# Altium schematic symbol library kmilo17pet-NSC_Interface.SchLib: 1433 symbols (part 30 of 51)
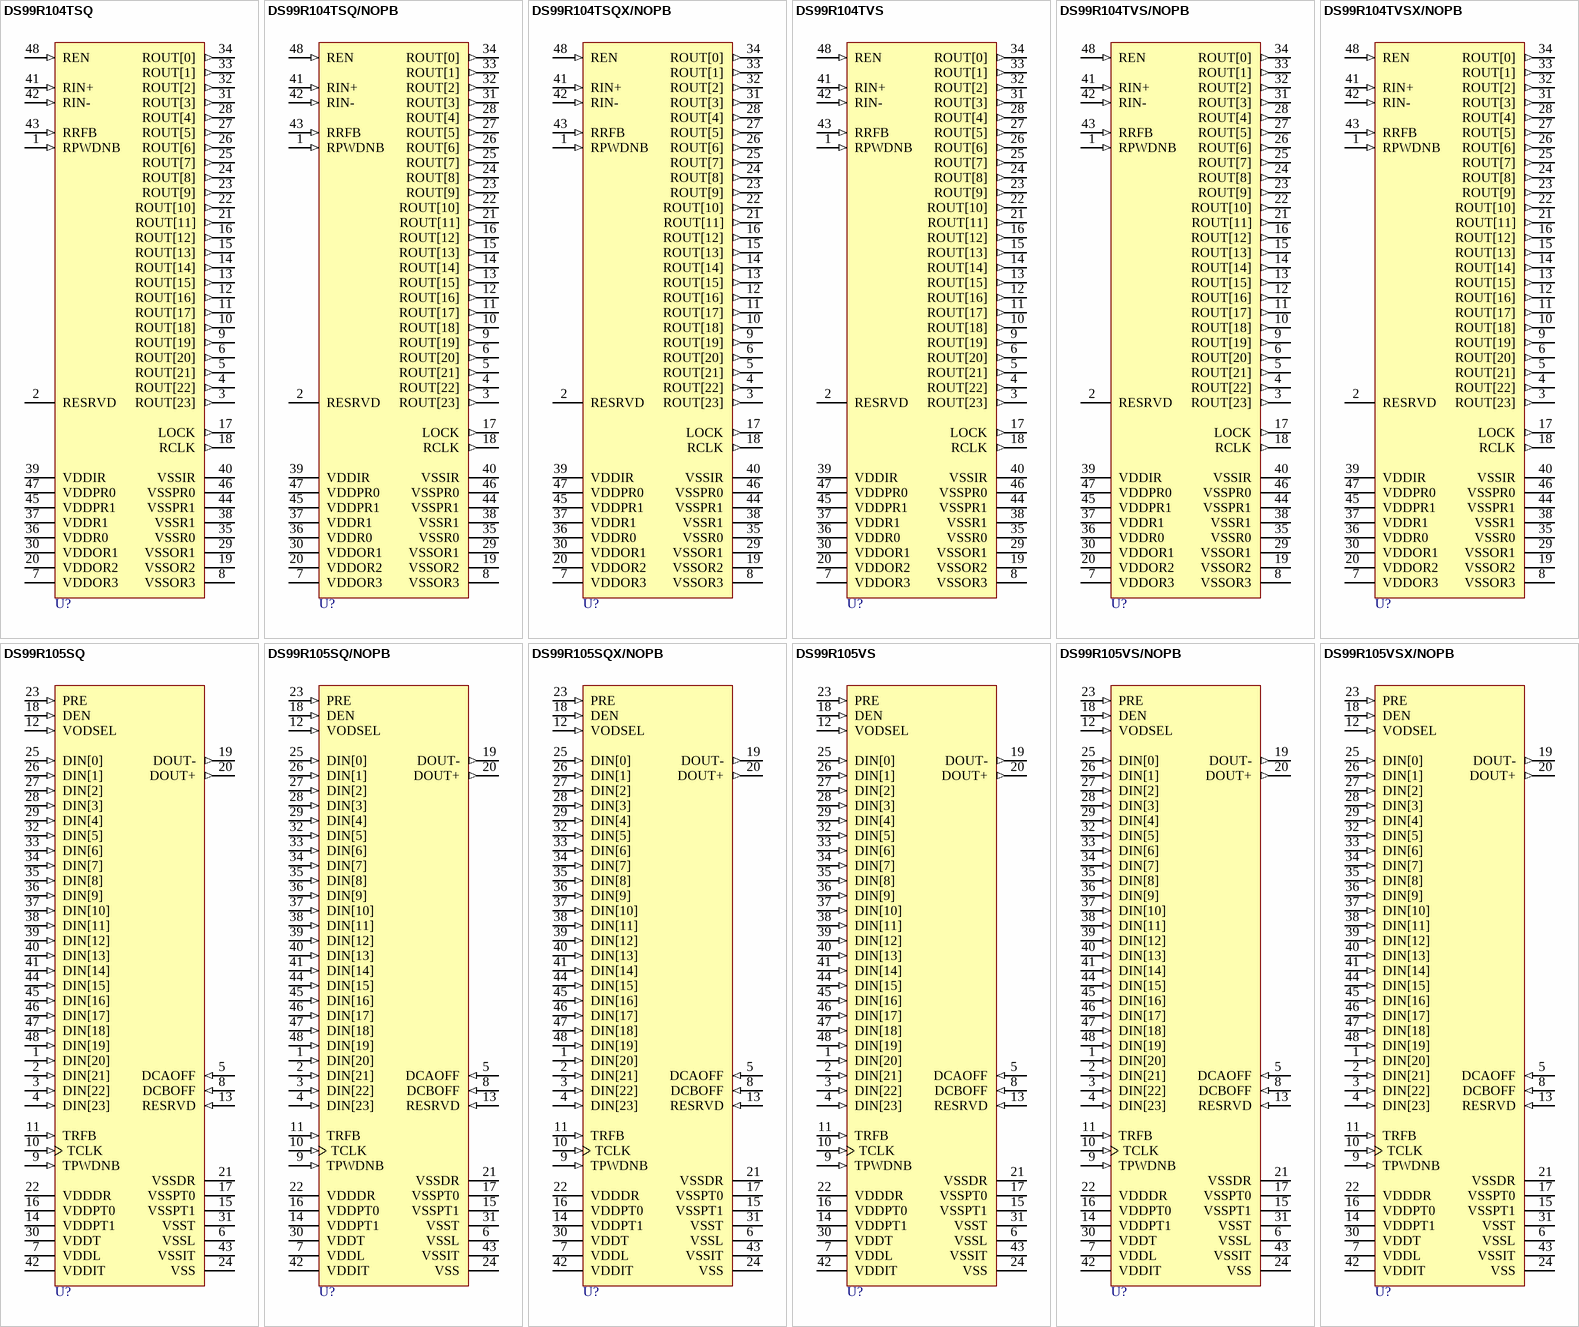
[diagram p153: symbols DS99R104TSQ to DS99R105VSX/NOPB]

## DS99R105VSX/NOPB
designator U?
3-40MHz DC- Balanced 24-Bit LVDS Serializer, 48-pin TQFP, Pb-Free; PartNumber: DS99R105VSX/NOPB; Manufacturer: National Semiconductor; PackageTopMarking: NSUZXYTT*DS99R105*VS; PowerWise: N; CompType: Interface IC; High-Reliability: Y; DatasheetVersion: Oct-2007; PackageVersion: revA, Apr-2000; PackageReference: VBC48A; PackageDescription: TQFP, Jedec Metric, 7 x 7 x 1mm, 48 Lead, 0.5mm Pitch; RoHS: Y; PinCount: 48; Code_JEDEC: MS-026-ABC; ComponentLink1Description: Manufacturer URL; ComponentLink1URL: http://www.national.com/; ComponentLink2Description: DS99R105 Datasheet; ComponentLink2URL: http://www.national.com/ds/DS/DS99R105.pdf; ComponentLink3Description: DS99R105 Web Page; ComponentLink3URL: http://www.national.com/pf/DS/DS99R105.html; ComponentLink4Description: VBC48A Package Page; ComponentLink4URL: http://www.national.com/packaging/folders/vbc48a.html
footprint VBC48A_N (Thin QFP, 48-Leads, Body 7x7mm, Pitch 0.5mm, IPC Medium Density)
footprint VBC48A_L (Thin QFP, 48-Leads, Body 7x7mm, Pitch 0.5mm, IPC High Density)
footprint VBC48A_M (Thin QFP, 48-Leads, Body 7x7mm, Pitch 0.5mm, IPC Low Density)
pins: 1 DIN[20] (in), 2 DIN[21] (in), 3 DIN[22] (in), 4 DIN[23] (in), 5 DCAOFF (in), 6 VSSL (power), 7 VDDL (power), 8 DCBOFF (in), 9 TPWDNB (in), 10 TCLK (in), 11 TRFB (in), 12 VODSEL (in), 13 RESRVD (in), 14 VDDPT1 (power), 15 VSSPT1 (power), 16 VDDPT0 (power), 17 VSSPT0 (power), 18 DEN (in), 19 DOUT- (out), 20 DOUT+ (out), 21 VSSDR (power), 22 VDDDR (power), 23 PRE (in), 24 VSS (power), 25 DIN[0] (in), 26 DIN[1] (in), 27 DIN[2] (in), 28 DIN[3] (in), 29 DIN[4] (in), 30 VDDT (power), 31 VSST (power), 32 DIN[5] (in), 33 DIN[6] (in), 34 DIN[7] (in), 35 DIN[8] (in), 36 DIN[9] (in), 37 DIN[10] (in), 38 DIN[11] (in), 39 DIN[12] (in), 40 DIN[13] (in), 41 DIN[14] (in), 42 VDDIT (power), 43 VSSIT (power), 44 DIN[15] (in), 45 DIN[16] (in), 46 DIN[17] (in), 47 DIN[18] (in), 48 DIN[19] (in)

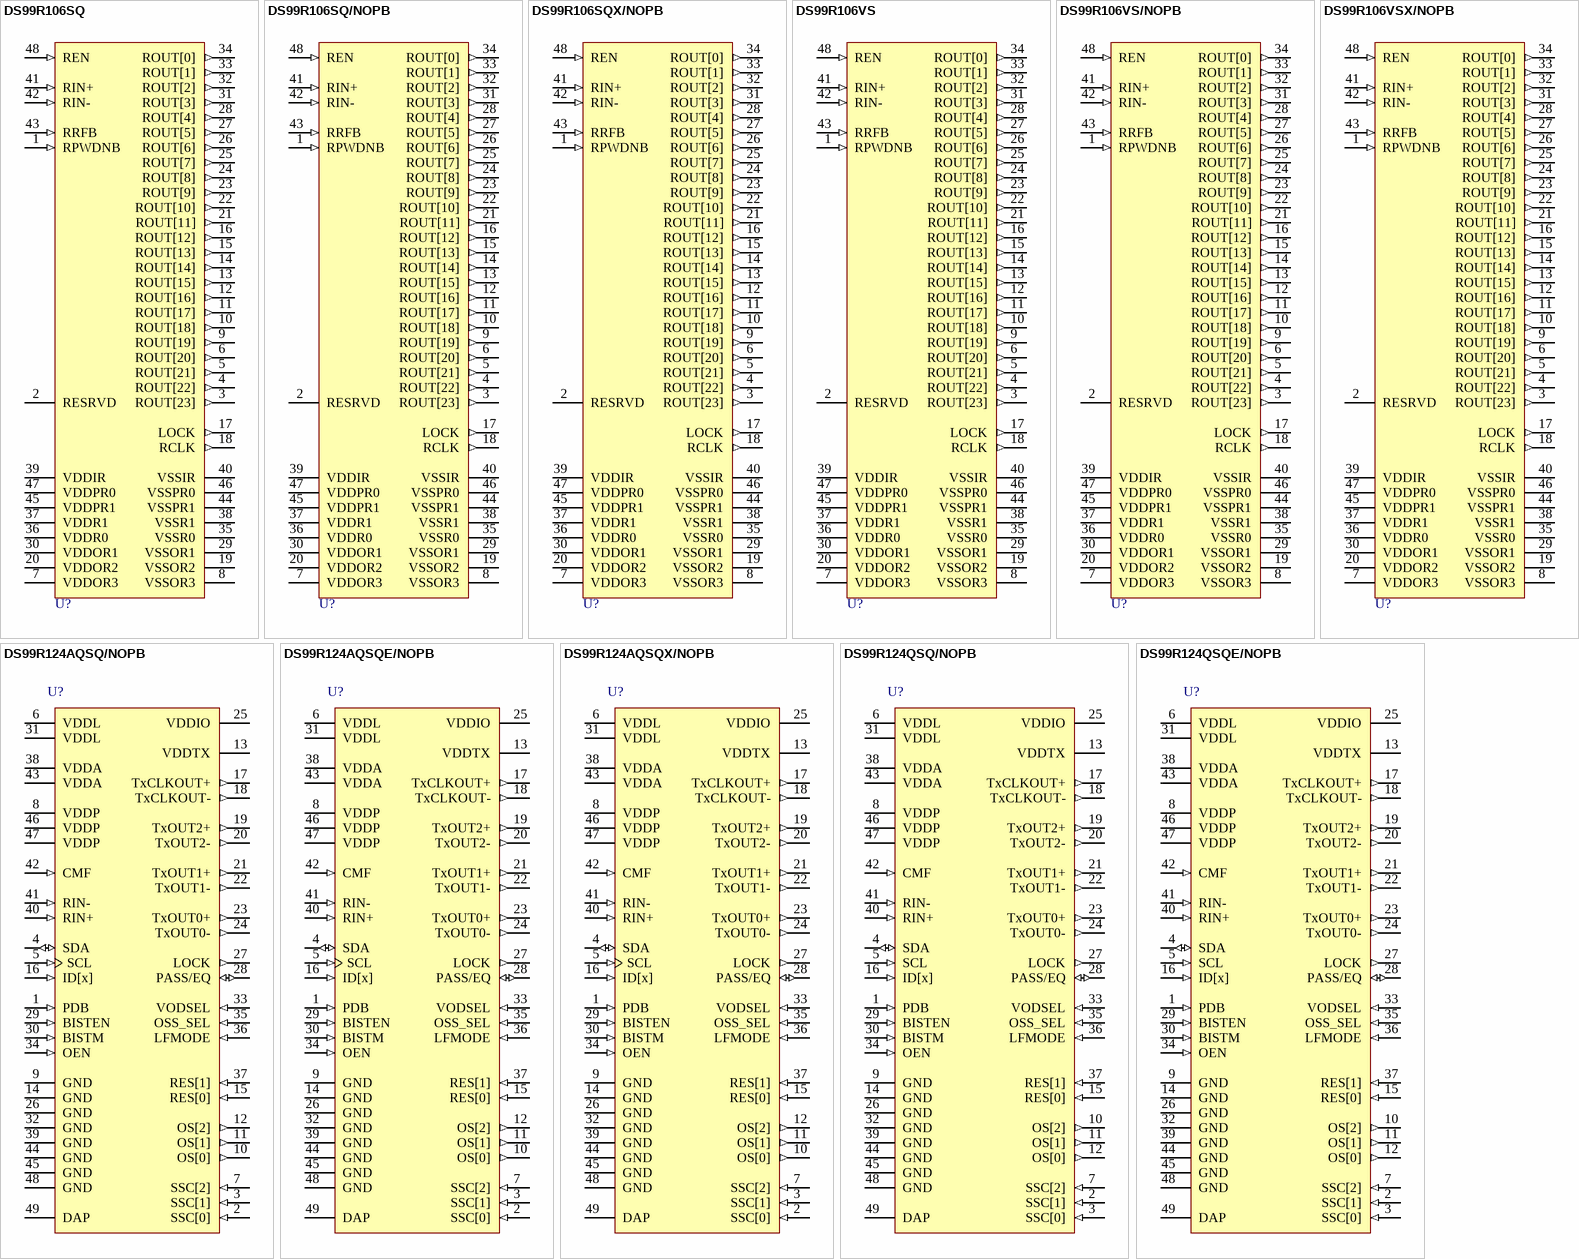
[diagram p78: symbols DS99R106SQ to DS99R124QSQE/NOPB]

## DS99R106SQ
designator U?
3-40MHz DC- Balanced 24-Bit LVDS Deserializer, 48-pin LLP; PartNumber: DS99R106SQ; Manufacturer: National Semiconductor; PackageTopMarking: NS*UZXYTT*DS99R106; PowerWise: N; CompType: Interface IC; High-Reliability: Y; DatasheetVersion: Oct-2007; PackageVersion: revA, Jul-2004; PackageReference: SQA48D; PackageDescription: LLP, Quad, 7 x 7 x 0.8mm, 48 Lead, 0.5mm Pitch, 4.1 x 4.1 Exposed Pad; RoHS: Y; PinCount: 48; ComponentLink1Description: Manufacturer URL; ComponentLink1URL: http://www.national.com/; ComponentLink2Description: DS99R106 Datasheet; ComponentLink2URL: http://www.national.com/ds/DS/DS99R106.pdf; ComponentLink3Description: DS99R106 Web Page; ComponentLink3URL: http://www.national.com/pf/DS/DS99R106.html; ComponentLink4Description: SQA48D Package Page; ComponentLink4URL: http://www.national.com/packaging/folders/sqa48d.html
footprint SQA48D (QFN, 48-Leads, Body 7x7mm, Pitch 0.5mm, Thermal Pad 4.2x4.2mm, NSC Recommended)
pins: 1 RPWDNB (in), 2 RESRVD, 3 ROUT[23] (out), 4 ROUT[22] (out), 5 ROUT[21] (out), 6 ROUT[20] (out), 7 VDDOR3 (power), 8 VSSOR3 (power), 9 ROUT[19] (out), 10 ROUT[18] (out), 11 ROUT[17] (out), 12 ROUT[16] (out), 13 ROUT[15] (out), 14 ROUT[14] (out), 15 ROUT[13] (out), 16 ROUT[12] (out), 17 LOCK (out), 18 RCLK (out), 19 VSSOR2 (power), 20 VDDOR2 (power), 21 ROUT[11] (out), 22 ROUT[10] (out), 23 ROUT[9] (out), 24 ROUT[8] (out), 25 ROUT[7] (out), 26 ROUT[6] (out), 27 ROUT[5] (out), 28 ROUT[4] (out), 29 VSSOR1 (power), 30 VDDOR1 (power), 31 ROUT[3] (out), 32 ROUT[2] (out), 33 ROUT[1] (out), 34 ROUT[0] (out), 35 VSSR0 (power), 36 VDDR0 (power), 37 VDDR1 (power), 38 VSSR1 (power), 39 VDDIR (power), 40 VSSIR (power), 41 RIN+ (in), 42 RIN- (in), 43 RRFB (in), 44 VSSPR1 (power), 45 VDDPR1 (power), 46 VSSPR0 (power), 47 VDDPR0 (power), 48 REN (in)

## DS99R106SQ/NOPB
designator U?
3-40MHz DC- Balanced 24-Bit LVDS Deserializer, 48-pin LLP, Pb-Free; PartNumber: DS99R106SQ/NOPB; Manufacturer: National Semiconductor; PackageTopMarking: NS*UZXYTTE#*DS99R106; PowerWise: N; CompType: Interface IC; High-Reliability: Y; DatasheetVersion: Oct-2007; PackageVersion: revA, Jul-2004; PackageReference: SQA48D; PackageDescription: LLP, Quad, 7 x 7 x 0.8mm, 48 Lead, 0.5mm Pitch, 4.1 x 4.1 Exposed Pad; RoHS: Y; PinCount: 48; ComponentLink1Description: Manufacturer URL; ComponentLink1URL: http://www.national.com/; ComponentLink2Description: DS99R106 Datasheet; ComponentLink2URL: http://www.national.com/ds/DS/DS99R106.pdf; ComponentLink3Description: DS99R106 Web Page; ComponentLink3URL: http://www.national.com/pf/DS/DS99R106.html; ComponentLink4Description: SQA48D Package Page; ComponentLink4URL: http://www.national.com/packaging/folders/sqa48d.html
footprint SQA48D (QFN, 48-Leads, Body 7x7mm, Pitch 0.5mm, Thermal Pad 4.2x4.2mm, NSC Recommended)
pins: 1 RPWDNB (in), 2 RESRVD, 3 ROUT[23] (out), 4 ROUT[22] (out), 5 ROUT[21] (out), 6 ROUT[20] (out), 7 VDDOR3 (power), 8 VSSOR3 (power), 9 ROUT[19] (out), 10 ROUT[18] (out), 11 ROUT[17] (out), 12 ROUT[16] (out), 13 ROUT[15] (out), 14 ROUT[14] (out), 15 ROUT[13] (out), 16 ROUT[12] (out), 17 LOCK (out), 18 RCLK (out), 19 VSSOR2 (power), 20 VDDOR2 (power), 21 ROUT[11] (out), 22 ROUT[10] (out), 23 ROUT[9] (out), 24 ROUT[8] (out), 25 ROUT[7] (out), 26 ROUT[6] (out), 27 ROUT[5] (out), 28 ROUT[4] (out), 29 VSSOR1 (power), 30 VDDOR1 (power), 31 ROUT[3] (out), 32 ROUT[2] (out), 33 ROUT[1] (out), 34 ROUT[0] (out), 35 VSSR0 (power), 36 VDDR0 (power), 37 VDDR1 (power), 38 VSSR1 (power), 39 VDDIR (power), 40 VSSIR (power), 41 RIN+ (in), 42 RIN- (in), 43 RRFB (in), 44 VSSPR1 (power), 45 VDDPR1 (power), 46 VSSPR0 (power), 47 VDDPR0 (power), 48 REN (in)

## DS99R106SQX/NOPB
designator U?
3-40MHz DC- Balanced 24-Bit LVDS Deserializer, 48-pin LLP, Pb-Free; PartNumber: DS99R106SQX/NOPB; Manufacturer: National Semiconductor; PackageTopMarking: NS*UZXYTTE#*DS99R106; PowerWise: N; CompType: Interface IC; High-Reliability: Y; DatasheetVersion: Oct-2007; PackageVersion: revA, Jul-2004; PackageReference: SQA48D; PackageDescription: LLP, Quad, 7 x 7 x 0.8mm, 48 Lead, 0.5mm Pitch, 4.1 x 4.1 Exposed Pad; RoHS: Y; PinCount: 48; ComponentLink1Description: Manufacturer URL; ComponentLink1URL: http://www.national.com/; ComponentLink2Description: DS99R106 Datasheet; ComponentLink2URL: http://www.national.com/ds/DS/DS99R106.pdf; ComponentLink3Description: DS99R106 Web Page; ComponentLink3URL: http://www.national.com/pf/DS/DS99R106.html; ComponentLink4Description: SQA48D Package Page; ComponentLink4URL: http://www.national.com/packaging/folders/sqa48d.html
footprint SQA48D (QFN, 48-Leads, Body 7x7mm, Pitch 0.5mm, Thermal Pad 4.2x4.2mm, NSC Recommended)
pins: 1 RPWDNB (in), 2 RESRVD, 3 ROUT[23] (out), 4 ROUT[22] (out), 5 ROUT[21] (out), 6 ROUT[20] (out), 7 VDDOR3 (power), 8 VSSOR3 (power), 9 ROUT[19] (out), 10 ROUT[18] (out), 11 ROUT[17] (out), 12 ROUT[16] (out), 13 ROUT[15] (out), 14 ROUT[14] (out), 15 ROUT[13] (out), 16 ROUT[12] (out), 17 LOCK (out), 18 RCLK (out), 19 VSSOR2 (power), 20 VDDOR2 (power), 21 ROUT[11] (out), 22 ROUT[10] (out), 23 ROUT[9] (out), 24 ROUT[8] (out), 25 ROUT[7] (out), 26 ROUT[6] (out), 27 ROUT[5] (out), 28 ROUT[4] (out), 29 VSSOR1 (power), 30 VDDOR1 (power), 31 ROUT[3] (out), 32 ROUT[2] (out), 33 ROUT[1] (out), 34 ROUT[0] (out), 35 VSSR0 (power), 36 VDDR0 (power), 37 VDDR1 (power), 38 VSSR1 (power), 39 VDDIR (power), 40 VSSIR (power), 41 RIN+ (in), 42 RIN- (in), 43 RRFB (in), 44 VSSPR1 (power), 45 VDDPR1 (power), 46 VSSPR0 (power), 47 VDDPR0 (power), 48 REN (in)

## DS99R106VS
designator U?
3-40MHz DC- Balanced 24-Bit LVDS Deserializer, 48-pin TQFP; PartNumber: DS99R106VS; Manufacturer: National Semiconductor; PackageTopMarking: NSUZXYTT*DS99R106*VS; PowerWise: N; CompType: Interface IC; High-Reliability: Y; DatasheetVersion: Oct-2007; PackageVersion: revA, Apr-2000; PackageReference: VBC48A; PackageDescription: TQFP, Jedec Metric, 7 x 7 x 1mm, 48 Lead, 0.5mm Pitch; RoHS: Y; PinCount: 48; Code_JEDEC: MS-026-ABC; ComponentLink1Description: Manufacturer URL; ComponentLink1URL: http://www.national.com/; ComponentLink2Description: DS99R106 Datasheet; ComponentLink2URL: http://www.national.com/ds/DS/DS99R106.pdf; ComponentLink3Description: DS99R106 Web Page; ComponentLink3URL: http://www.national.com/pf/DS/DS99R106.html; ComponentLink4Description: VBC48A Package Page; ComponentLink4URL: http://www.national.com/packaging/folders/vbc48a.html
footprint VBC48A_N (Thin QFP, 48-Leads, Body 7x7mm, Pitch 0.5mm, IPC Medium Density)
footprint VBC48A_L (Thin QFP, 48-Leads, Body 7x7mm, Pitch 0.5mm, IPC High Density)
footprint VBC48A_M (Thin QFP, 48-Leads, Body 7x7mm, Pitch 0.5mm, IPC Low Density)
pins: 1 RPWDNB (in), 2 RESRVD, 3 ROUT[23] (out), 4 ROUT[22] (out), 5 ROUT[21] (out), 6 ROUT[20] (out), 7 VDDOR3 (power), 8 VSSOR3 (power), 9 ROUT[19] (out), 10 ROUT[18] (out), 11 ROUT[17] (out), 12 ROUT[16] (out), 13 ROUT[15] (out), 14 ROUT[14] (out), 15 ROUT[13] (out), 16 ROUT[12] (out), 17 LOCK (out), 18 RCLK (out), 19 VSSOR2 (power), 20 VDDOR2 (power), 21 ROUT[11] (out), 22 ROUT[10] (out), 23 ROUT[9] (out), 24 ROUT[8] (out), 25 ROUT[7] (out), 26 ROUT[6] (out), 27 ROUT[5] (out), 28 ROUT[4] (out), 29 VSSOR1 (power), 30 VDDOR1 (power), 31 ROUT[3] (out), 32 ROUT[2] (out), 33 ROUT[1] (out), 34 ROUT[0] (out), 35 VSSR0 (power), 36 VDDR0 (power), 37 VDDR1 (power), 38 VSSR1 (power), 39 VDDIR (power), 40 VSSIR (power), 41 RIN+ (in), 42 RIN- (in), 43 RRFB (in), 44 VSSPR1 (power), 45 VDDPR1 (power), 46 VSSPR0 (power), 47 VDDPR0 (power), 48 REN (in)

## DS99R106VS/NOPB
designator U?
3-40MHz DC- Balanced 24-Bit LVDS Deserializer, 48-pin TQFP, Pb-Free; PartNumber: DS99R106VS/NOPB; Manufacturer: National Semiconductor; PackageTopMarking: NSUZXYTT*DS99R106*VS; PowerWise: N; CompType: Interface IC; High-Reliability: Y; DatasheetVersion: Oct-2007; PackageVersion: revA, Apr-2000; PackageReference: VBC48A; PackageDescription: TQFP, Jedec Metric, 7 x 7 x 1mm, 48 Lead, 0.5mm Pitch; RoHS: Y; PinCount: 48; Code_JEDEC: MS-026-ABC; ComponentLink1Description: Manufacturer URL; ComponentLink1URL: http://www.national.com/; ComponentLink2Description: DS99R106 Datasheet; ComponentLink2URL: http://www.national.com/ds/DS/DS99R106.pdf; ComponentLink3Description: DS99R106 Web Page; ComponentLink3URL: http://www.national.com/pf/DS/DS99R106.html; ComponentLink4Description: VBC48A Package Page; ComponentLink4URL: http://www.national.com/packaging/folders/vbc48a.html
footprint VBC48A_N (Thin QFP, 48-Leads, Body 7x7mm, Pitch 0.5mm, IPC Medium Density)
footprint VBC48A_L (Thin QFP, 48-Leads, Body 7x7mm, Pitch 0.5mm, IPC High Density)
footprint VBC48A_M (Thin QFP, 48-Leads, Body 7x7mm, Pitch 0.5mm, IPC Low Density)
pins: 1 RPWDNB (in), 2 RESRVD, 3 ROUT[23] (out), 4 ROUT[22] (out), 5 ROUT[21] (out), 6 ROUT[20] (out), 7 VDDOR3 (power), 8 VSSOR3 (power), 9 ROUT[19] (out), 10 ROUT[18] (out), 11 ROUT[17] (out), 12 ROUT[16] (out), 13 ROUT[15] (out), 14 ROUT[14] (out), 15 ROUT[13] (out), 16 ROUT[12] (out), 17 LOCK (out), 18 RCLK (out), 19 VSSOR2 (power), 20 VDDOR2 (power), 21 ROUT[11] (out), 22 ROUT[10] (out), 23 ROUT[9] (out), 24 ROUT[8] (out), 25 ROUT[7] (out), 26 ROUT[6] (out), 27 ROUT[5] (out), 28 ROUT[4] (out), 29 VSSOR1 (power), 30 VDDOR1 (power), 31 ROUT[3] (out), 32 ROUT[2] (out), 33 ROUT[1] (out), 34 ROUT[0] (out), 35 VSSR0 (power), 36 VDDR0 (power), 37 VDDR1 (power), 38 VSSR1 (power), 39 VDDIR (power), 40 VSSIR (power), 41 RIN+ (in), 42 RIN- (in), 43 RRFB (in), 44 VSSPR1 (power), 45 VDDPR1 (power), 46 VSSPR0 (power), 47 VDDPR0 (power), 48 REN (in)

## DS99R106VSX/NOPB
designator U?
3-40MHz DC- Balanced 24-Bit LVDS Deserializer, 48-pin TQFP, Pb-Free; PartNumber: DS99R106VSX/NOPB; Manufacturer: National Semiconductor; PackageTopMarking: NSUZXYTT*DS99R106*VS; PowerWise: N; CompType: Interface IC; High-Reliability: Y; DatasheetVersion: Oct-2007; PackageVersion: revA, Apr-2000; PackageReference: VBC48A; PackageDescription: TQFP, Jedec Metric, 7 x 7 x 1mm, 48 Lead, 0.5mm Pitch; RoHS: Y; PinCount: 48; Code_JEDEC: MS-026-ABC; ComponentLink1Description: Manufacturer URL; ComponentLink1URL: http://www.national.com/; ComponentLink2Description: DS99R106 Datasheet; ComponentLink2URL: http://www.national.com/ds/DS/DS99R106.pdf; ComponentLink3Description: DS99R106 Web Page; ComponentLink3URL: http://www.national.com/pf/DS/DS99R106.html; ComponentLink4Description: VBC48A Package Page; ComponentLink4URL: http://www.national.com/packaging/folders/vbc48a.html
footprint VBC48A_N (Thin QFP, 48-Leads, Body 7x7mm, Pitch 0.5mm, IPC Medium Density)
footprint VBC48A_L (Thin QFP, 48-Leads, Body 7x7mm, Pitch 0.5mm, IPC High Density)
footprint VBC48A_M (Thin QFP, 48-Leads, Body 7x7mm, Pitch 0.5mm, IPC Low Density)
pins: 1 RPWDNB (in), 2 RESRVD, 3 ROUT[23] (out), 4 ROUT[22] (out), 5 ROUT[21] (out), 6 ROUT[20] (out), 7 VDDOR3 (power), 8 VSSOR3 (power), 9 ROUT[19] (out), 10 ROUT[18] (out), 11 ROUT[17] (out), 12 ROUT[16] (out), 13 ROUT[15] (out), 14 ROUT[14] (out), 15 ROUT[13] (out), 16 ROUT[12] (out), 17 LOCK (out), 18 RCLK (out), 19 VSSOR2 (power), 20 VDDOR2 (power), 21 ROUT[11] (out), 22 ROUT[10] (out), 23 ROUT[9] (out), 24 ROUT[8] (out), 25 ROUT[7] (out), 26 ROUT[6] (out), 27 ROUT[5] (out), 28 ROUT[4] (out), 29 VSSOR1 (power), 30 VDDOR1 (power), 31 ROUT[3] (out), 32 ROUT[2] (out), 33 ROUT[1] (out), 34 ROUT[0] (out), 35 VSSR0 (power), 36 VDDR0 (power), 37 VDDR1 (power), 38 VSSR1 (power), 39 VDDIR (power), 40 VSSIR (power), 41 RIN+ (in), 42 RIN- (in), 43 RRFB (in), 44 VSSPR1 (power), 45 VDDPR1 (power), 46 VSSPR0 (power), 47 VDDPR0 (power), 48 REN (in)

## DS99R124AQSQ/NOPB
designator U?
5 - 43 MHz 18-bit Color FPD-Link II to FPD-Link Converter, 48-pin LLP; PartNumber: DS99R124AQSQ/NOPB; Manufacturer: National Semiconductor; PackageTopMarking: NS*UZXYTTE#*99R124AQ; PowerWise: N; CompType: Interface IC; High-Reliability: Y; DatasheetVersion: Jul-2011; PackageVersion: revB, May-2009; PackageReference: SQA48A; PackageDescription: LLP, Plastic, Quad, 7 x 7 x 0.8mm Body, 48 Lead, 0.5mm Pitch, No Pullback; RoHS: Y; PinCount: 48; Code_JEDEC: MO-220-WKKD-2; ComponentLink1Description: Manufacturer URL; ComponentLink1URL: http://www.national.com/; ComponentLink2Description: DS99R124AQ Datasheet; ComponentLink2URL: http://www.national.com/ds/DS/DS99R124AQ.pdf; ComponentLink3Description: DS99R124AQ Web Page; ComponentLink3URL: http://www.national.com/pf/DS/DS99R124AQ.html; ComponentLink4Description: SQA48A Package Page; ComponentLink4URL: http://www.national.com/packaging/folders/sqa48a.html
footprint SQA48A (QFN, 48-Leads, Body 7x7mm, Pitch 0.5mm, Thermal Pad 5.2x5.2mm, NSC Recommended)
pins: 1 PDB (in), 2 SSC[0] (in), 3 SSC[1] (in), 4 SDA (io), 5 SCL (in), 6 VDDL (power), 7 SSC[2] (in), 8 VDDP (power), 9 GND (power), 10 OS[0] (out), 11 OS[1] (out), 12 OS[2] (out), 13 VDDTX (power), 14 GND (power), 15 RES[0] (in), 16 ID[x] (in), 17 TxCLKOUT+ (out), 18 TxCLKOUT- (out), 19 TxOUT2+ (out), 20 TxOUT2- (out), 21 TxOUT1+ (out), 22 TxOUT1- (out), 23 TxOUT0+ (out), 24 TxOUT0- (out), 25 VDDIO (power), 26 GND (power), 27 LOCK (out), 28 PASS/EQ (io), 29 BISTEN (in), 30 BISTM (in), 31 VDDL (power), 32 GND (power), 33 VODSEL (in), 34 OEN (in), 35 OSS_SEL (in), 36 LFMODE (in), 37 RES[1] (in), 38 VDDA (power), 39 GND (power), 40 RIN+ (in), 41 RIN- (in), 42 CMF (in), 43 VDDA (power), 44 GND (power), 45 GND (power), 46 VDDP (power), 47 VDDP (power), 48 GND (power), 49 DAP (power)

## DS99R124AQSQE/NOPB
designator U?
5 - 43 MHz 18-bit Color FPD-Link II to FPD-Link Converter, 48-pin LLP; PartNumber: DS99R124AQSQE/NOPB; Manufacturer: National Semiconductor; PackageTopMarking: NS*UZXYTTE#*99R124AQ; PowerWise: N; CompType: Interface IC; High-Reliability: Y; DatasheetVersion: Jul-2011; PackageVersion: revB, May-2009; PackageReference: SQA48A; PackageDescription: LLP, Plastic, Quad, 7 x 7 x 0.8mm Body, 48 Lead, 0.5mm Pitch, No Pullback; RoHS: Y; PinCount: 48; Code_JEDEC: MO-220-WKKD-2; ComponentLink1Description: Manufacturer URL; ComponentLink1URL: http://www.national.com/; ComponentLink2Description: DS99R124AQ Datasheet; ComponentLink2URL: http://www.national.com/ds/DS/DS99R124AQ.pdf; ComponentLink3Description: DS99R124AQ Web Page; ComponentLink3URL: http://www.national.com/pf/DS/DS99R124AQ.html; ComponentLink4Description: SQA48A Package Page; ComponentLink4URL: http://www.national.com/packaging/folders/sqa48a.html
footprint SQA48A (QFN, 48-Leads, Body 7x7mm, Pitch 0.5mm, Thermal Pad 5.2x5.2mm, NSC Recommended)
pins: 1 PDB (in), 2 SSC[0] (in), 3 SSC[1] (in), 4 SDA (io), 5 SCL (in), 6 VDDL (power), 7 SSC[2] (in), 8 VDDP (power), 9 GND (power), 10 OS[0] (out), 11 OS[1] (out), 12 OS[2] (out), 13 VDDTX (power), 14 GND (power), 15 RES[0] (in), 16 ID[x] (in), 17 TxCLKOUT+ (out), 18 TxCLKOUT- (out), 19 TxOUT2+ (out), 20 TxOUT2- (out), 21 TxOUT1+ (out), 22 TxOUT1- (out), 23 TxOUT0+ (out), 24 TxOUT0- (out), 25 VDDIO (power), 26 GND (power), 27 LOCK (out), 28 PASS/EQ (io), 29 BISTEN (in), 30 BISTM (in), 31 VDDL (power), 32 GND (power), 33 VODSEL (in), 34 OEN (in), 35 OSS_SEL (in), 36 LFMODE (in), 37 RES[1] (in), 38 VDDA (power), 39 GND (power), 40 RIN+ (in), 41 RIN- (in), 42 CMF (in), 43 VDDA (power), 44 GND (power), 45 GND (power), 46 VDDP (power), 47 VDDP (power), 48 GND (power), 49 DAP (power)

## DS99R124AQSQX/NOPB
designator U?
5 - 43 MHz 18-bit Color FPD-Link II to FPD-Link Converter, 48-pin LLP; PartNumber: DS99R124AQSQX/NOPB; Manufacturer: National Semiconductor; PackageTopMarking: NS*UZXYTTE#*99R124AQ; PowerWise: N; CompType: Interface IC; High-Reliability: Y; DatasheetVersion: Jul-2011; PackageVersion: revB, May-2009; PackageReference: SQA48A; PackageDescription: LLP, Plastic, Quad, 7 x 7 x 0.8mm Body, 48 Lead, 0.5mm Pitch, No Pullback; RoHS: Y; PinCount: 48; Code_JEDEC: MO-220-WKKD-2; ComponentLink1Description: Manufacturer URL; ComponentLink1URL: http://www.national.com/; ComponentLink2Description: DS99R124AQ Datasheet; ComponentLink2URL: http://www.national.com/ds/DS/DS99R124AQ.pdf; ComponentLink3Description: DS99R124AQ Web Page; ComponentLink3URL: http://www.national.com/pf/DS/DS99R124AQ.html; ComponentLink4Description: SQA48A Package Page; ComponentLink4URL: http://www.national.com/packaging/folders/sqa48a.html
footprint SQA48A (QFN, 48-Leads, Body 7x7mm, Pitch 0.5mm, Thermal Pad 5.2x5.2mm, NSC Recommended)
pins: 1 PDB (in), 2 SSC[0] (in), 3 SSC[1] (in), 4 SDA (io), 5 SCL (in), 6 VDDL (power), 7 SSC[2] (in), 8 VDDP (power), 9 GND (power), 10 OS[0] (out), 11 OS[1] (out), 12 OS[2] (out), 13 VDDTX (power), 14 GND (power), 15 RES[0] (in), 16 ID[x] (in), 17 TxCLKOUT+ (out), 18 TxCLKOUT- (out), 19 TxOUT2+ (out), 20 TxOUT2- (out), 21 TxOUT1+ (out), 22 TxOUT1- (out), 23 TxOUT0+ (out), 24 TxOUT0- (out), 25 VDDIO (power), 26 GND (power), 27 LOCK (out), 28 PASS/EQ (io), 29 BISTEN (in), 30 BISTM (in), 31 VDDL (power), 32 GND (power), 33 VODSEL (in), 34 OEN (in), 35 OSS_SEL (in), 36 LFMODE (in), 37 RES[1] (in), 38 VDDA (power), 39 GND (power), 40 RIN+ (in), 41 RIN- (in), 42 CMF (in), 43 VDDA (power), 44 GND (power), 45 GND (power), 46 VDDP (power), 47 VDDP (power), 48 GND (power), 49 DAP (power)

## DS99R124QSQ/NOPB
designator U?
5 - 43 MHz 18-bit Color FPD-Link II to FPD-Link Converter, 48 pin LLP, Pb-Free; PartNumber: DS99R124QSQ/NOPB; Manufacturer: National Semiconductor; PackageTopMarking: NS*UZXYTTE#*DS99R124Q; PowerWise: N; CompType: Interface IC; High-Reliability: Y; DatasheetVersion: Jan-2010; PackageVersion: revA, Jul-2004; PackageReference: SQA48D; PackageDescription: LLP, Quad, 7 x 7 x 0.8mm, 48 Lead, 0.5mm Pitch, 4.1 x 4.1 Exposed Pad; RoHS: Y; PinCount: 48; ComponentLink1Description: Manufacturer URL; ComponentLink1URL: http://www.national.com/; ComponentLink2Description: DS99R124Q Datasheet; ComponentLink2URL: http://www.national.com/ds/DS/DS99R124Q.pdf; ComponentLink3Description: DS99R124Q Web Page; ComponentLink3URL: http://www.national.com/pf/DS/DS99R124Q.html; ComponentLink4Description: SQA48A Package Page; ComponentLink4URL: http://www.national.com/packaging/folders/sqa48a.html
footprint SQA48D (QFN, 48-Leads, Body 7x7mm, Pitch 0.5mm, Thermal Pad 4.2x4.2mm, NSC Recommended)
pins: 1 PDB (in), 2 SSC[1] (in), 3 SSC[0] (in), 4 SDA (io), 5 SCL (in), 6 VDDL (power), 7 SSC[2] (in), 8 VDDP (power), 9 GND (power), 10 OS[2] (out), 11 OS[1] (out), 12 OS[0] (out), 13 VDDTX (power), 14 GND (power), 15 RES[0] (in), 16 ID[x] (in), 17 TxCLKOUT+ (out), 18 TxCLKOUT- (out), 19 TxOUT2+ (out), 20 TxOUT2- (out), 21 TxOUT1+ (out), 22 TxOUT1- (out), 23 TxOUT0+ (out), 24 TxOUT0- (out), 25 VDDIO (power), 26 GND (power), 27 LOCK (out), 28 PASS/EQ (io), 29 BISTEN (in), 30 BISTM (in), 31 VDDL (power), 32 GND (power), 33 VODSEL (in), 34 OEN (in), 35 OSS_SEL (in), 36 LFMODE (in), 37 RES[1] (in), 38 VDDA (power), 39 GND (power), 40 RIN+ (in), 41 RIN- (in), 42 CMF (in), 43 VDDA (power), 44 GND (power), 45 GND (power), 46 VDDP (power), 47 VDDP (power), 48 GND (power), 49 DAP (power)

## DS99R124QSQE/NOPB
designator U?
5 - 43 MHz 18-bit Color FPD-Link II to FPD-Link Converter, 48 pin LLP, Pb-Free; PartNumber: DS99R124QSQE/NOPB; Manufacturer: National Semiconductor; PackageTopMarking: NS*UZXYTTE#*DS99R124Q; PowerWise: N; CompType: Interface IC; High-Reliability: Y; DatasheetVersion: Jan-2010; PackageVersion: revA, Jul-2004; PackageReference: SQA48D; PackageDescription: LLP, Quad, 7 x 7 x 0.8mm, 48 Lead, 0.5mm Pitch, 4.1 x 4.1 Exposed Pad; RoHS: Y; PinCount: 48; ComponentLink1Description: Manufacturer URL; ComponentLink1URL: http://www.national.com/; ComponentLink2Description: DS99R124Q Datasheet; ComponentLink2URL: http://www.national.com/ds/DS/DS99R124Q.pdf; ComponentLink3Description: DS99R124Q Web Page; ComponentLink3URL: http://www.national.com/pf/DS/DS99R124Q.html; ComponentLink4Description: SQA48A Package Page; ComponentLink4URL: http://www.national.com/packaging/folders/sqa48a.html
footprint SQA48D (QFN, 48-Leads, Body 7x7mm, Pitch 0.5mm, Thermal Pad 4.2x4.2mm, NSC Recommended)
pins: 1 PDB (in), 2 SSC[1] (in), 3 SSC[0] (in), 4 SDA (io), 5 SCL (in), 6 VDDL (power), 7 SSC[2] (in), 8 VDDP (power), 9 GND (power), 10 OS[2] (out), 11 OS[1] (out), 12 OS[0] (out), 13 VDDTX (power), 14 GND (power), 15 RES[0] (in), 16 ID[x] (in), 17 TxCLKOUT+ (out), 18 TxCLKOUT- (out), 19 TxOUT2+ (out), 20 TxOUT2- (out), 21 TxOUT1+ (out), 22 TxOUT1- (out), 23 TxOUT0+ (out), 24 TxOUT0- (out), 25 VDDIO (power), 26 GND (power), 27 LOCK (out), 28 PASS/EQ (io), 29 BISTEN (in), 30 BISTM (in), 31 VDDL (power), 32 GND (power), 33 VODSEL (in), 34 OEN (in), 35 OSS_SEL (in), 36 LFMODE (in), 37 RES[1] (in), 38 VDDA (power), 39 GND (power), 40 RIN+ (in), 41 RIN- (in), 42 CMF (in), 43 VDDA (power), 44 GND (power), 45 GND (power), 46 VDDP (power), 47 VDDP (power), 48 GND (power), 49 DAP (power)

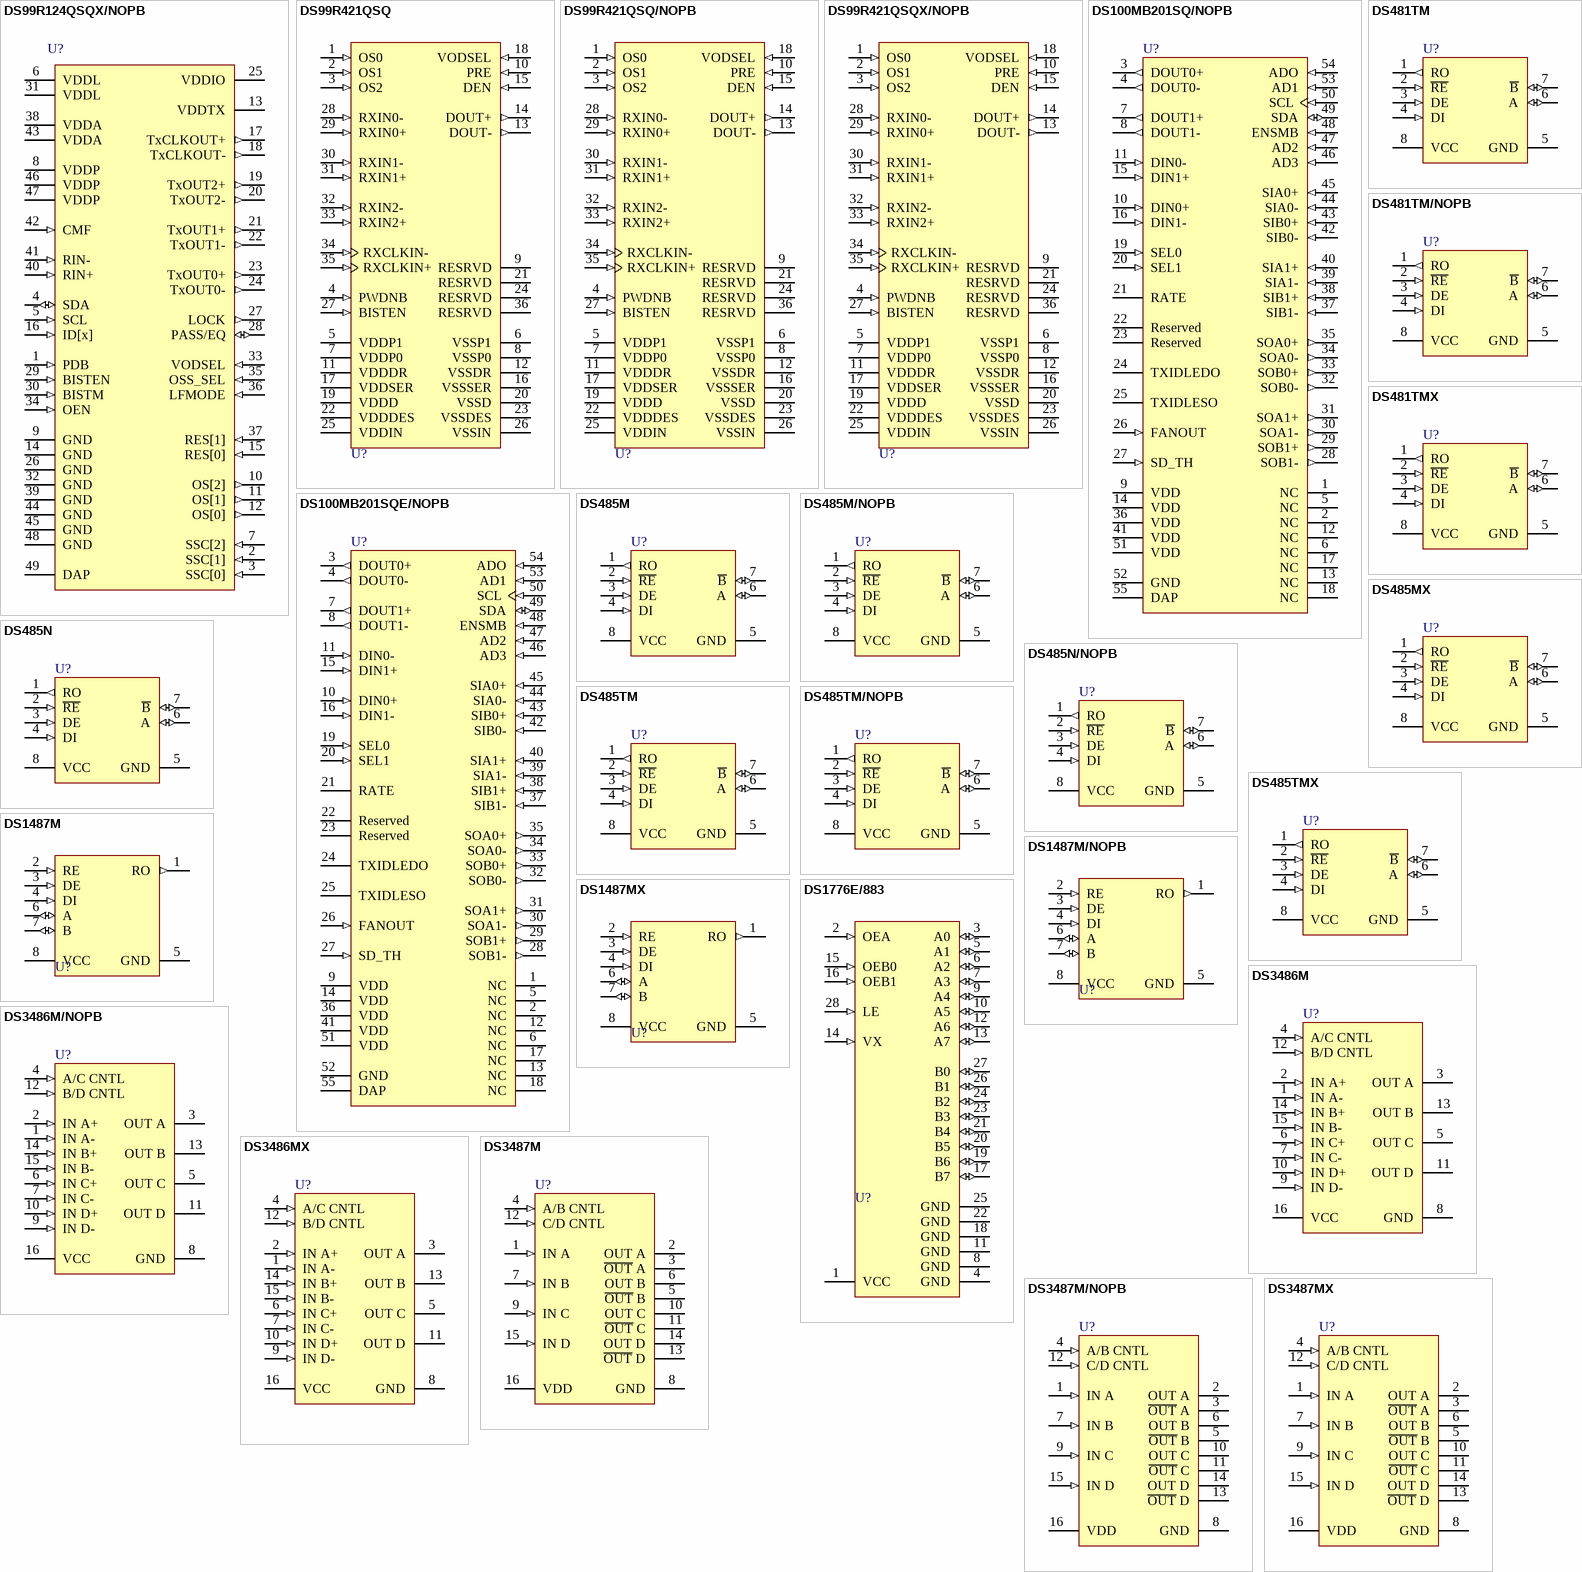
[diagram p79: symbols DS99R124QSQX/NOPB to DS3487MX]

## DS99R124QSQX/NOPB
designator U?
5 - 43 MHz 18-bit Color FPD-Link II to FPD-Link Converter, 48 pin LLP, Pb-Free; PartNumber: DS99R124QSQX/NOPB; Manufacturer: National Semiconductor; PackageTopMarking: NS*UZXYTTE#*DS99R124Q; PowerWise: N; CompType: Interface IC; High-Reliability: Y; DatasheetVersion: Jan-2010; PackageVersion: revA, Jul-2004; PackageReference: SQA48D; PackageDescription: LLP, Quad, 7 x 7 x 0.8mm, 48 Lead, 0.5mm Pitch, 4.1 x 4.1 Exposed Pad; RoHS: Y; PinCount: 48; ComponentLink1Description: Manufacturer URL; ComponentLink1URL: http://www.national.com/; ComponentLink2Description: DS99R124Q Datasheet; ComponentLink2URL: http://www.national.com/ds/DS/DS99R124Q.pdf; ComponentLink3Description: DS99R124Q Web Page; ComponentLink3URL: http://www.national.com/pf/DS/DS99R124Q.html; ComponentLink4Description: SQA48A Package Page; ComponentLink4URL: http://www.national.com/packaging/folders/sqa48a.html
footprint SQA48D (QFN, 48-Leads, Body 7x7mm, Pitch 0.5mm, Thermal Pad 4.2x4.2mm, NSC Recommended)
pins: 1 PDB (in), 2 SSC[1] (in), 3 SSC[0] (in), 4 SDA (io), 5 SCL (in), 6 VDDL (power), 7 SSC[2] (in), 8 VDDP (power), 9 GND (power), 10 OS[2] (out), 11 OS[1] (out), 12 OS[0] (out), 13 VDDTX (power), 14 GND (power), 15 RES[0] (in), 16 ID[x] (in), 17 TxCLKOUT+ (out), 18 TxCLKOUT- (out), 19 TxOUT2+ (out), 20 TxOUT2- (out), 21 TxOUT1+ (out), 22 TxOUT1- (out), 23 TxOUT0+ (out), 24 TxOUT0- (out), 25 VDDIO (power), 26 GND (power), 27 LOCK (out), 28 PASS/EQ (io), 29 BISTEN (in), 30 BISTM (in), 31 VDDL (power), 32 GND (power), 33 VODSEL (in), 34 OEN (in), 35 OSS_SEL (in), 36 LFMODE (in), 37 RES[1] (in), 38 VDDA (power), 39 GND (power), 40 RIN+ (in), 41 RIN- (in), 42 CMF (in), 43 VDDA (power), 44 GND (power), 45 GND (power), 46 VDDP (power), 47 VDDP (power), 48 GND (power), 49 DAP (power)

## DS99R421QSQ
designator U?
5-43 MHz FPD-Link LVDS (3 Data + 1 Clock) to Single Embedded Clock DC-Balanced LVDS Converter, 36-pin LLP; PartNumber: DS99R421QSQ; Manufacturer: National Semiconductor; PackageTopMarking: NS*UZXYTT*99R421Q; PowerWise: N; CompType: Interface IC; High-Reliability: Y; DatasheetVersion: Sep-2009; PackageVersion: revA, Jun-2003; PackageReference: SQA36A; PackageDescription: LLP, Plastic, Quad, 6 x 6 x 0.8mm Body, 36 Lead, 0.5mm Pitch, No Pullback; RoHS: Y; PinCount: 36; ComponentLink1Description: Manufacturer URL; ComponentLink1URL: http://www.national.com/; ComponentLink2Description: DS99R421 Datasheet; ComponentLink2URL: http://www.national.com/ds/DS/DS99R421.pdf; ComponentLink3Description: DS99R421 Web Page; ComponentLink3URL: http://www.national.com/pf/DS/DS99R421.html; ComponentLink4Description: SQA36A Package Page; ComponentLink4URL: http://www.national.com/packaging/folders/sqa36a.html
footprint SQA36A (QFN, 36-Leads, Body 6x6mm, Pitch 0.5mm, Thermal Pad 4.7x4.7mm, NSC Recommended)
pins: 1 OS0 (in), 2 OS1 (in), 3 OS2 (in), 4 PWDNB (in), 5 VDDP1 (power), 6 VSSP1 (power), 7 VDDP0 (power), 8 VSSP0 (power), 9 RESRVD, 10 PRE (in), 11 VDDDR (power), 12 VSSDR (power), 13 DOUT- (out), 14 DOUT+ (out), 15 DEN (in), 16 VSSSER (power), 17 VDDSER (power), 18 VODSEL (in), 19 VDDD (power), 20 VSSD (power), 21 RESRVD, 22 VDDDES (power), 23 VSSDES (power), 24 RESRVD, 25 VDDIN (power), 26 VSSIN (power), 27 BISTEN (in), 28 RXIN0- (in), 29 RXIN0+ (in), 30 RXIN1- (in), 31 RXIN1+ (in), 32 RXIN2- (in), 33 RXIN2+ (in), 34 RXCLKIN- (in), 35 RXCLKIN+ (in), 36 RESRVD

## DS99R421QSQ/NOPB
designator U?
5-43 MHz FPD-Link LVDS (3 Data + 1 Clock) to FPD-Link II LVDS (Embedded Clock DC-Balanced) Converter, 36-pin LLP, Pb-Free; PartNumber: DS99R421QSQ/NOPB; Manufacturer: National Semiconductor; PackageTopMarking: NS*UZXYTTE#*99R421Q; PowerWise: N; CompType: Interface IC; High-Reliability: Y; DatasheetVersion: Sep-2009; PackageVersion: revA, Jun-2003; PackageReference: SQA36A; PackageDescription: LLP, Plastic, Quad, 6 x 6 x 0.8mm Body, 36 Lead, 0.5mm Pitch, No Pullback; RoHS: Y; PinCount: 36; ComponentLink1Description: Manufacturer URL; ComponentLink1URL: http://www.national.com/; ComponentLink2Description: DS99R421 Datasheet; ComponentLink2URL: http://www.national.com/ds/DS/DS99R421.pdf; ComponentLink3Description: DS99R421 Web Page; ComponentLink3URL: http://www.national.com/pf/DS/DS99R421.html; ComponentLink4Description: SQA36A Package Page; ComponentLink4URL: http://www.national.com/packaging/folders/sqa36a.html
footprint SQA36A (QFN, 36-Leads, Body 6x6mm, Pitch 0.5mm, Thermal Pad 4.7x4.7mm, NSC Recommended)
pins: 1 OS0 (in), 2 OS1 (in), 3 OS2 (in), 4 PWDNB (in), 5 VDDP1 (power), 6 VSSP1 (power), 7 VDDP0 (power), 8 VSSP0 (power), 9 RESRVD, 10 PRE (in), 11 VDDDR (power), 12 VSSDR (power), 13 DOUT- (out), 14 DOUT+ (out), 15 DEN (in), 16 VSSSER (power), 17 VDDSER (power), 18 VODSEL (in), 19 VDDD (power), 20 VSSD (power), 21 RESRVD, 22 VDDDES (power), 23 VSSDES (power), 24 RESRVD, 25 VDDIN (power), 26 VSSIN (power), 27 BISTEN (in), 28 RXIN0- (in), 29 RXIN0+ (in), 30 RXIN1- (in), 31 RXIN1+ (in), 32 RXIN2- (in), 33 RXIN2+ (in), 34 RXCLKIN- (in), 35 RXCLKIN+ (in), 36 RESRVD

## DS99R421QSQX/NOPB
designator U?
5-43 MHz FPD-Link LVDS (3 Data + 1 Clock) to FPD-Link II LVDS (Embedded Clock DC-Balanced) Converter, 36-pin LLP, Pb-Free; PartNumber: DS99R421QSQX/NOPB; Manufacturer: National Semiconductor; PackageTopMarking: NS*UZXYTTE#*99R421Q; PowerWise: N; CompType: Interface IC; High-Reliability: Y; DatasheetVersion: Sep-2009; PackageVersion: revA, Jun-2003; PackageReference: SQA36A; PackageDescription: LLP, Plastic, Quad, 6 x 6 x 0.8mm Body, 36 Lead, 0.5mm Pitch, No Pullback; RoHS: Y; PinCount: 36; ComponentLink1Description: Manufacturer URL; ComponentLink1URL: http://www.national.com/; ComponentLink2Description: DS99R421 Datasheet; ComponentLink2URL: http://www.national.com/ds/DS/DS99R421.pdf; ComponentLink3Description: DS99R421 Web Page; ComponentLink3URL: http://www.national.com/pf/DS/DS99R421.html; ComponentLink4Description: SQA36A Package Page; ComponentLink4URL: http://www.national.com/packaging/folders/sqa36a.html
footprint SQA36A (QFN, 36-Leads, Body 6x6mm, Pitch 0.5mm, Thermal Pad 4.7x4.7mm, NSC Recommended)
pins: 1 OS0 (in), 2 OS1 (in), 3 OS2 (in), 4 PWDNB (in), 5 VDDP1 (power), 6 VSSP1 (power), 7 VDDP0 (power), 8 VSSP0 (power), 9 RESRVD, 10 PRE (in), 11 VDDDR (power), 12 VSSDR (power), 13 DOUT- (out), 14 DOUT+ (out), 15 DEN (in), 16 VSSSER (power), 17 VDDSER (power), 18 VODSEL (in), 19 VDDD (power), 20 VSSD (power), 21 RESRVD, 22 VDDDES (power), 23 VSSDES (power), 24 RESRVD, 25 VDDIN (power), 26 VSSIN (power), 27 BISTEN (in), 28 RXIN0- (in), 29 RXIN0+ (in), 30 RXIN1- (in), 31 RXIN1+ (in), 32 RXIN2- (in), 33 RXIN2+ (in), 34 RXCLKIN- (in), 35 RXCLKIN+ (in), 36 RESRVD

## DS100MB201SQ/NOPB
designator U?
Dual Lane 2:1/1:2 Mux/Buffer with Equalization, 54-pin LLP, 2000 Reel; PartNumber: DS100MB201SQ/NOPB; Manufacturer: National Semiconductor; PackageTopMarking: NS*UZXYTTE#*DS100MB201*SQ; PowerWise: N; CompType: Interface IC; High-Reliability: Y; DatasheetVersion: Apr-2011; PackageVersion: revB, Jun-2009; PackageReference: SQA54A; PackageDescription: LLP, Plastic, Quad, 10 x 10 x 0.8 mm Body, 54 Lead, 0.5 mm Pitch (SQA54A); RoHS: Y; PinCount: 54; ComponentLink1Description: Manufacturer URL; ComponentLink1URL: http://www.national.com/; ComponentLink2Description: DS100MB201 Datasheet; ComponentLink2URL: http://www.national.com/ds/DS/DS100MB201.pdf; ComponentLink3Description: DS100MB201 Web Page; ComponentLink3URL: http://www.national.com/pf/DS/DS100MB201.html; ComponentLink4Description: SQA54A Package Page; ComponentLink4URL: http://www.national.com/packaging/folders/sqa54a.html
footprint SQA54A (PQFN, 54-Leads, (18x9 pads), Body 10x10mm, Pitch 0.5mm, NSC Recommended)
pins: 1 NC, 2 NC, 3 DOUT0+ (out), 4 DOUT0- (out), 5 NC, 6 NC, 7 DOUT1+ (out), 8 DOUT1- (out), 9 VDD (power), 10 DIN0+ (in), 11 DIN0- (in), 12 NC, 13 NC, 14 VDD (power), 15 DIN1+ (in), 16 DIN1- (in), 17 NC, 18 NC, 19 SEL0 (in), 20 SEL1 (in), 21 RATE, 22 Reserved, 23 Reserved, 24 TXIDLEDO, 25 TXIDLESO, 26 FANOUT (in), 27 SD_TH (in), 28 SOB1- (out), 29 SOB1+ (out), 30 SOA1- (out), 31 SOA1+ (out), 32 SOB0- (out), 33 SOB0+ (out), 34 SOA0- (out), 35 SOA0+ (out), 36 VDD (power), 37 SIB1- (in), 38 SIB1+ (in), 39 SIA1- (in), 40 SIA1+ (in), 41 VDD (power), 42 SIB0- (in), 43 SIB0+ (in), 44 SIA0- (in), 45 SIA0+ (in), 46 AD3 (in), 47 AD2 (in), 48 ENSMB (in), 49 SDA (io), 50 SCL (in), 51 VDD (power), 52 GND (power), 53 AD1 (in), 54 ADO (in), 55 DAP (power)

## DS100MB201SQE/NOPB
designator U?
Dual Lane 2:1/1:2 Mux/Buffer with Equalization, 54-pin LLP, 250 Reel; PartNumber: DS100MB201SQE/NOPB; Manufacturer: National Semiconductor; PackageTopMarking: NS*UZXYTTE#*DS100MB201*SQ; PowerWise: N; CompType: Interface IC; High-Reliability: Y; DatasheetVersion: Apr-2011; PackageVersion: revB, Jun-2009; PackageReference: SQA54A; PackageDescription: LLP, Plastic, Quad, 10 x 10 x 0.8 mm Body, 54 Lead, 0.5 mm Pitch (SQA54A); RoHS: Y; PinCount: 54; ComponentLink1Description: Manufacturer URL; ComponentLink1URL: http://www.national.com/; ComponentLink2Description: DS100MB201 Datasheet; ComponentLink2URL: http://www.national.com/ds/DS/DS100MB201.pdf; ComponentLink3Description: DS100MB201 Web Page; ComponentLink3URL: http://www.national.com/pf/DS/DS100MB201.html; ComponentLink4Description: SQA54A Package Page; ComponentLink4URL: http://www.national.com/packaging/folders/sqa54a.html
footprint SQA54A (PQFN, 54-Leads, (18x9 pads), Body 10x10mm, Pitch 0.5mm, NSC Recommended)
pins: 1 NC, 2 NC, 3 DOUT0+ (out), 4 DOUT0- (out), 5 NC, 6 NC, 7 DOUT1+ (out), 8 DOUT1- (out), 9 VDD (power), 10 DIN0+ (in), 11 DIN0- (in), 12 NC, 13 NC, 14 VDD (power), 15 DIN1+ (in), 16 DIN1- (in), 17 NC, 18 NC, 19 SEL0 (in), 20 SEL1 (in), 21 RATE, 22 Reserved, 23 Reserved, 24 TXIDLEDO, 25 TXIDLESO, 26 FANOUT (in), 27 SD_TH (in), 28 SOB1- (out), 29 SOB1+ (out), 30 SOA1- (out), 31 SOA1+ (out), 32 SOB0- (out), 33 SOB0+ (out), 34 SOA0- (out), 35 SOA0+ (out), 36 VDD (power), 37 SIB1- (in), 38 SIB1+ (in), 39 SIA1- (in), 40 SIA1+ (in), 41 VDD (power), 42 SIB0- (in), 43 SIB0+ (in), 44 SIA0- (in), 45 SIA0+ (in), 46 AD3 (in), 47 AD2 (in), 48 ENSMB (in), 49 SDA (io), 50 SCL (in), 51 VDD (power), 52 GND (power), 53 AD1 (in), 54 ADO (in), 55 DAP (power)

## DS481TM
designator U?
Low Power RS-485/RS-422 Multipoint Transceiver with Sleep Mode, 8-pin Narrow SOIC; PartNumber: DS481TM; Manufacturer: National Semiconductor; PackageTopMarking: NSZXTT*DS481*TM; PowerWise: N; CompType: Interface IC; High-Reliability: Y; DatasheetVersion: Jul-2000; PackageVersion: revM, May-2009; PackageReference: M08A; PackageDescription: SOIC Narrow, 4.9 x 3.9 x 1.45mm, 8 Lead, 1.27mm Pitch; RoHS: N; PinCount: 8; Code_JEDEC: MS-012-AA; Code_IPC: SOIC127P600-8; ComponentLink1Description: Manufacturer URL; ComponentLink1URL: http://www.national.com/; ComponentLink2Description: DS481 Datasheet; ComponentLink2URL: http://www.national.com/ds/DS/DS481.pdf; ComponentLink3Description: DS481 Web Page; ComponentLink3URL: http://www.national.com/pf/DS/DS481.html; ComponentLink4Description: M08A Package Page; ComponentLink4URL: http://www.national.com/packaging/folders/m08a.html
footprint M08A_N (SOIC, 8-Leads, Body 4.9x3.9mm, Pitch 1.27mm, IPC Medium Density)
footprint M08A_L (SOIC, 8-Leads, Body 4.9x3.9mm, Pitch 1.27mm, IPC High Density)
footprint M08A_M (SOIC, 8-Leads, Body 4.9x3.9mm, Pitch 1.27mm, IPC Low Density)
pins: 1 RO (out), 2 ~{RE} (in), 3 DE (in), 4 DI (in), 5 GND (power), 6 A (io), 7 ~{B} (io), 8 VCC (power)

## DS481TM/NOPB
designator U?
Low Power RS-485/RS-422 Multipoint Transceiver with Sleep Mode, 8-pin Narrow SOIC; PartNumber: DS481TM/NOPB; Manufacturer: National Semiconductor; PackageTopMarking: NSZXTT*DS481*TM; PowerWise: N; CompType: Interface IC; High-Reliability: Y; DatasheetVersion: Jul-2000; PackageVersion: revM, May-2009; PackageReference: M08A; PackageDescription: SOIC Narrow, 4.9 x 3.9 x 1.45mm, 8 Lead, 1.27mm Pitch; RoHS: Y; PinCount: 8; Code_JEDEC: MS-012-AA; Code_IPC: SOIC127P600-8; ComponentLink1Description: Manufacturer URL; ComponentLink1URL: http://www.national.com/; ComponentLink2Description: DS481 Datasheet; ComponentLink2URL: http://www.national.com/ds/DS/DS481.pdf; ComponentLink3Description: DS481 Web Page; ComponentLink3URL: http://www.national.com/pf/DS/DS481.html; ComponentLink4Description: M08A Package Page; ComponentLink4URL: http://www.national.com/packaging/folders/m08a.html
footprint M08A_N (SOIC, 8-Leads, Body 4.9x3.9mm, Pitch 1.27mm, IPC Medium Density)
footprint M08A_L (SOIC, 8-Leads, Body 4.9x3.9mm, Pitch 1.27mm, IPC High Density)
footprint M08A_M (SOIC, 8-Leads, Body 4.9x3.9mm, Pitch 1.27mm, IPC Low Density)
pins: 1 RO (out), 2 ~{RE} (in), 3 DE (in), 4 DI (in), 5 GND (power), 6 A (io), 7 ~{B} (io), 8 VCC (power)

## DS481TMX
designator U?
Low Power RS-485/RS-422 Multipoint Transceiver with Sleep Mode, 8-pin Narrow SOIC; PartNumber: DS481TMX; Manufacturer: National Semiconductor; PackageTopMarking: NSZXTT*DS481*TM; PowerWise: N; CompType: Interface IC; High-Reliability: Y; DatasheetVersion: Jul-2000; PackageVersion: revM, May-2009; PackageReference: M08A; PackageDescription: SOIC Narrow, 4.9 x 3.9 x 1.45mm, 8 Lead, 1.27mm Pitch; RoHS: N; PinCount: 8; Code_JEDEC: MS-012-AA; Code_IPC: SOIC127P600-8; ComponentLink1Description: Manufacturer URL; ComponentLink1URL: http://www.national.com/; ComponentLink2Description: DS481 Datasheet; ComponentLink2URL: http://www.national.com/ds/DS/DS481.pdf; ComponentLink3Description: DS481 Web Page; ComponentLink3URL: http://www.national.com/pf/DS/DS481.html; ComponentLink4Description: M08A Package Page; ComponentLink4URL: http://www.national.com/packaging/folders/m08a.html
footprint M08A_N (SOIC, 8-Leads, Body 4.9x3.9mm, Pitch 1.27mm, IPC Medium Density)
footprint M08A_L (SOIC, 8-Leads, Body 4.9x3.9mm, Pitch 1.27mm, IPC High Density)
footprint M08A_M (SOIC, 8-Leads, Body 4.9x3.9mm, Pitch 1.27mm, IPC Low Density)
pins: 1 RO (out), 2 ~{RE} (in), 3 DE (in), 4 DI (in), 5 GND (power), 6 A (io), 7 ~{B} (io), 8 VCC (power)

## DS485M
designator U?
Low-Power RS-485/RS-422 Multipoint Transceiver, 8-pin Narrow SOIC; PartNumber: DS485M; Manufacturer: National Semiconductor; PackageTopMarking: NSZXTT*DS485*M; PowerWise: N; CompType: Interface IC; High-Reliability: Y; DatasheetVersion: Jul-1998; PackageVersion: revM, May-2009; PackageReference: M08A; PackageDescription: SOIC Narrow, 4.9 x 3.9 x 1.45mm, 8 Lead, 1.27mm Pitch; RoHS: N; PinCount: 8; Code_JEDEC: MS-012-AA; Code_IPC: SOIC127P600-8; ComponentLink1Description: Manufacturer URL; ComponentLink1URL: http://www.national.com/; ComponentLink2Description: DS485 Datasheet; ComponentLink2URL: http://www.national.com/ds/DS/DS485.pdf; ComponentLink3Description: DS485 Web Page; ComponentLink3URL: http://www.national.com/pf/DS/DS485.html; ComponentLink4Description: M08A Package Page; ComponentLink4URL: http://www.national.com/packaging/folders/m08a.html
footprint M08A_N (SOIC, 8-Leads, Body 4.9x3.9mm, Pitch 1.27mm, IPC Medium Density)
footprint M08A_L (SOIC, 8-Leads, Body 4.9x3.9mm, Pitch 1.27mm, IPC High Density)
footprint M08A_M (SOIC, 8-Leads, Body 4.9x3.9mm, Pitch 1.27mm, IPC Low Density)
pins: 1 RO (out), 2 ~{RE} (in), 3 DE (in), 4 DI (in), 5 GND (power), 6 A (io), 7 ~{B} (io), 8 VCC (power)

## DS485M/NOPB
designator U?
Low-Power RS-485/RS-422 Multipoint Transceiver, 8-pin Narrow SOIC, Pb-Free; PartNumber: DS485M/NOPB; Manufacturer: National Semiconductor; PackageTopMarking: NSZXTT*DS485*M; PowerWise: N; CompType: Interface IC; High-Reliability: Y; DatasheetVersion: Jul-1998; PackageVersion: revM, May-2009; PackageReference: M08A; PackageDescription: SOIC Narrow, 4.9 x 3.9 x 1.45mm, 8 Lead, 1.27mm Pitch; RoHS: Y; PinCount: 8; Code_JEDEC: MS-012-AA; Code_IPC: SOIC127P600-8; ComponentLink1Description: Manufacturer URL; ComponentLink1URL: http://www.national.com/; ComponentLink2Description: DS485 Datasheet; ComponentLink2URL: http://www.national.com/ds/DS/DS485.pdf; ComponentLink3Description: DS485 Web Page; ComponentLink3URL: http://www.national.com/pf/DS/DS485.html; ComponentLink4Description: M08A Package Page; ComponentLink4URL: http://www.national.com/packaging/folders/m08a.html
footprint M08A_N (SOIC, 8-Leads, Body 4.9x3.9mm, Pitch 1.27mm, IPC Medium Density)
footprint M08A_L (SOIC, 8-Leads, Body 4.9x3.9mm, Pitch 1.27mm, IPC High Density)
footprint M08A_M (SOIC, 8-Leads, Body 4.9x3.9mm, Pitch 1.27mm, IPC Low Density)
pins: 1 RO (out), 2 ~{RE} (in), 3 DE (in), 4 DI (in), 5 GND (power), 6 A (io), 7 ~{B} (io), 8 VCC (power)

## DS485MX
designator U?
Low-Power RS-485/RS-422 Multipoint Transceiver, 8-pin Narrow SOIC; PartNumber: DS485MX; Manufacturer: National Semiconductor; PackageTopMarking: NSZXTT*DS485*M; PowerWise: N; CompType: Interface IC; High-Reliability: Y; DatasheetVersion: Jul-1998; PackageVersion: revM, May-2009; PackageReference: M08A; PackageDescription: SOIC Narrow, 4.9 x 3.9 x 1.45mm, 8 Lead, 1.27mm Pitch; RoHS: N; PinCount: 8; Code_JEDEC: MS-012-AA; Code_IPC: SOIC127P600-8; ComponentLink1Description: Manufacturer URL; ComponentLink1URL: http://www.national.com/; ComponentLink2Description: DS485 Datasheet; ComponentLink2URL: http://www.national.com/ds/DS/DS485.pdf; ComponentLink3Description: DS485 Web Page; ComponentLink3URL: http://www.national.com/pf/DS/DS485.html; ComponentLink4Description: M08A Package Page; ComponentLink4URL: http://www.national.com/packaging/folders/m08a.html
footprint M08A_N (SOIC, 8-Leads, Body 4.9x3.9mm, Pitch 1.27mm, IPC Medium Density)
footprint M08A_L (SOIC, 8-Leads, Body 4.9x3.9mm, Pitch 1.27mm, IPC High Density)
footprint M08A_M (SOIC, 8-Leads, Body 4.9x3.9mm, Pitch 1.27mm, IPC Low Density)
pins: 1 RO (out), 2 ~{RE} (in), 3 DE (in), 4 DI (in), 5 GND (power), 6 A (io), 7 ~{B} (io), 8 VCC (power)

## DS485N
designator U?
Low-Power RS-485/RS-422 Multipoint Transceiver, 8-pin MDIP; PartNumber: DS485N; Manufacturer: National Semiconductor; PackageTopMarking: NSUZXYTTE#*DS485*N; PowerWise: N; CompType: Interface IC; High-Reliability: Y; DatasheetVersion: Jul-1998; PackageVersion: revG, May-2006; PackageReference: N08E; PackageDescription: MDIP, .365 x .250 x .130in, 8 Lead, .100in Pitch; RoHS: N; PinCount: 8; Code_JEDEC: MS-001-BA; ComponentLink1Description: Manufacturer URL; ComponentLink1URL: http://www.national.com/; ComponentLink2Description: DS485 Datasheet; ComponentLink2URL: http://www.national.com/ds/DS/DS485.pdf; ComponentLink3Description: DS485 Web Page; ComponentLink3URL: http://www.national.com/pf/DS/DS485.html; ComponentLink4Description: N08E Package Page; ComponentLink4URL: http://www.national.com/packaging/folders/n08e.html
footprint N08E (DIP, 8-Leads, Row Spacing 7.62mm, Pitch 2.54mm, Body 9.91x6.35mm)
pins: 1 RO (out), 2 ~{RE} (in), 3 DE (in), 4 DI (in), 5 GND (power), 6 A (io), 7 ~{B} (io), 8 VCC (power)

## DS485N/NOPB
designator U?
Low-Power RS-485/RS-422 Multipoint Transceiver, 8-pin MDIP, Pb-Free; PartNumber: DS485N/NOPB; Manufacturer: National Semiconductor; PackageTopMarking: NSUZXYTTE#*DS485*N; PowerWise: N; CompType: Interface IC; High-Reliability: Y; DatasheetVersion: Jul-1998; PackageVersion: revG, May-2006; PackageReference: N08E; PackageDescription: MDIP, .365 x .250 x .130in, 8 Lead, .100in Pitch; RoHS: Y; PinCount: 8; Code_JEDEC: MS-001-BA; ComponentLink1Description: Manufacturer URL; ComponentLink1URL: http://www.national.com/; ComponentLink2Description: DS485 Datasheet; ComponentLink2URL: http://www.national.com/ds/DS/DS485.pdf; ComponentLink3Description: DS485 Web Page; ComponentLink3URL: http://www.national.com/pf/DS/DS485.html; ComponentLink4Description: N08E Package Page; ComponentLink4URL: http://www.national.com/packaging/folders/n08e.html
footprint N08E (DIP, 8-Leads, Row Spacing 7.62mm, Pitch 2.54mm, Body 9.91x6.35mm)
pins: 1 RO (out), 2 ~{RE} (in), 3 DE (in), 4 DI (in), 5 GND (power), 6 A (io), 7 ~{B} (io), 8 VCC (power)

## DS485TM
designator U?
Low-Power RS-485/RS-422 Multipoint Transceiver, 8-pin Narrow SOIC; PartNumber: DS485TM; Manufacturer: National Semiconductor; PackageTopMarking: NSZXTT*DS485*TM; PowerWise: N; CompType: Interface IC; High-Reliability: Y; DatasheetVersion: Jul-1998; PackageVersion: revM, May-2009; PackageReference: M08A; PackageDescription: SOIC Narrow, 4.9 x 3.9 x 1.45mm, 8 Lead, 1.27mm Pitch; RoHS: N; PinCount: 8; Code_JEDEC: MS-012-AA; Code_IPC: SOIC127P600-8; ComponentLink1Description: Manufacturer URL; ComponentLink1URL: http://www.national.com/; ComponentLink2Description: DS485 Datasheet; ComponentLink2URL: http://www.national.com/ds/DS/DS485.pdf; ComponentLink3Description: DS485 Web Page; ComponentLink3URL: http://www.national.com/pf/DS/DS485.html; ComponentLink4Description: M08A Package Page; ComponentLink4URL: http://www.national.com/packaging/folders/m08a.html
footprint M08A_N (SOIC, 8-Leads, Body 4.9x3.9mm, Pitch 1.27mm, IPC Medium Density)
footprint M08A_L (SOIC, 8-Leads, Body 4.9x3.9mm, Pitch 1.27mm, IPC High Density)
footprint M08A_M (SOIC, 8-Leads, Body 4.9x3.9mm, Pitch 1.27mm, IPC Low Density)
pins: 1 RO (out), 2 ~{RE} (in), 3 DE (in), 4 DI (in), 5 GND (power), 6 A (io), 7 ~{B} (io), 8 VCC (power)

## DS485TM/NOPB
designator U?
Low-Power RS-485/RS-422 Multipoint Transceiver, 8-pin Narrow SOIC, Pb-Free; PartNumber: DS485TM/NOPB; Manufacturer: National Semiconductor; PackageTopMarking: NSZXTT*DS485*TM; PowerWise: N; CompType: Interface IC; High-Reliability: Y; DatasheetVersion: Jul-1998; PackageVersion: revM, May-2009; PackageReference: M08A; PackageDescription: SOIC Narrow, 4.9 x 3.9 x 1.45mm, 8 Lead, 1.27mm Pitch; RoHS: Y; PinCount: 8; Code_JEDEC: MS-012-AA; Code_IPC: SOIC127P600-8; ComponentLink1Description: Manufacturer URL; ComponentLink1URL: http://www.national.com/; ComponentLink2Description: DS485 Datasheet; ComponentLink2URL: http://www.national.com/ds/DS/DS485.pdf; ComponentLink3Description: DS485 Web Page; ComponentLink3URL: http://www.national.com/pf/DS/DS485.html; ComponentLink4Description: M08A Package Page; ComponentLink4URL: http://www.national.com/packaging/folders/m08a.html
footprint M08A_N (SOIC, 8-Leads, Body 4.9x3.9mm, Pitch 1.27mm, IPC Medium Density)
footprint M08A_L (SOIC, 8-Leads, Body 4.9x3.9mm, Pitch 1.27mm, IPC High Density)
footprint M08A_M (SOIC, 8-Leads, Body 4.9x3.9mm, Pitch 1.27mm, IPC Low Density)
pins: 1 RO (out), 2 ~{RE} (in), 3 DE (in), 4 DI (in), 5 GND (power), 6 A (io), 7 ~{B} (io), 8 VCC (power)

## DS485TMX
designator U?
Low-Power RS-485/RS-422 Multipoint Transceiver, 8-pin Narrow SOIC; PartNumber: DS485TMX; Manufacturer: National Semiconductor; PackageTopMarking: NSZXTT*DS485*TM; PowerWise: N; CompType: Interface IC; High-Reliability: Y; DatasheetVersion: Jul-1998; PackageVersion: revM, May-2009; PackageReference: M08A; PackageDescription: SOIC Narrow, 4.9 x 3.9 x 1.45mm, 8 Lead, 1.27mm Pitch; RoHS: N; PinCount: 8; Code_JEDEC: MS-012-AA; Code_IPC: SOIC127P600-8; ComponentLink1Description: Manufacturer URL; ComponentLink1URL: http://www.national.com/; ComponentLink2Description: DS485 Datasheet; ComponentLink2URL: http://www.national.com/ds/DS/DS485.pdf; ComponentLink3Description: DS485 Web Page; ComponentLink3URL: http://www.national.com/pf/DS/DS485.html; ComponentLink4Description: M08A Package Page; ComponentLink4URL: http://www.national.com/packaging/folders/m08a.html
footprint M08A_N (SOIC, 8-Leads, Body 4.9x3.9mm, Pitch 1.27mm, IPC Medium Density)
footprint M08A_L (SOIC, 8-Leads, Body 4.9x3.9mm, Pitch 1.27mm, IPC High Density)
footprint M08A_M (SOIC, 8-Leads, Body 4.9x3.9mm, Pitch 1.27mm, IPC Low Density)
pins: 1 RO (out), 2 ~{RE} (in), 3 DE (in), 4 DI (in), 5 GND (power), 6 A (io), 7 ~{B} (io), 8 VCC (power)

## DS1487M
designator U?
Low Power RS-485/1/4 Unit Load Multipoint Transceiver, 8-pin Narrow SOIC; PartNumber: DS1487M; Manufacturer: National Semiconductor; PackageTopMarking: NSZXTT*DS148*7M; PowerWise: N; CompType: Interface IC; High-Reliability: Y; DatasheetVersion: Jul-1998; PackageVersion: revM, May-2009; PackageReference: M08A; PackageDescription: SOIC Narrow, 4.9 x 3.9 x 1.45mm, 8 Lead, 1.27mm Pitch; RoHS: N; PinCount: 8; Code_JEDEC: MS-012-AA; Code_IPC: SOIC127P600-8; ComponentLink1Description: Manufacturer URL; ComponentLink1URL: http://www.national.com/; ComponentLink2Description: DS1487 Datasheet; ComponentLink2URL: http://www.national.com/ds/DS/DS1487.pdf; ComponentLink3Description: DS1487 Web Page; ComponentLink3URL: http://www.national.com/pf/DS/DS1487.html; ComponentLink4Description: M08A Package Page; ComponentLink4URL: http://www.national.com/packaging/folders/m08a.html
footprint M08A_N (SOIC, 8-Leads, Body 4.9x3.9mm, Pitch 1.27mm, IPC Medium Density)
footprint M08A_L (SOIC, 8-Leads, Body 4.9x3.9mm, Pitch 1.27mm, IPC High Density)
footprint M08A_M (SOIC, 8-Leads, Body 4.9x3.9mm, Pitch 1.27mm, IPC Low Density)
pins: 1 RO (out), 2 RE (in), 3 DE (in), 4 DI (in), 5 GND (power), 6 A (io), 7 B (io), 8 VCC (power)

## DS1487M/NOPB
designator U?
Low Power RS-485/1/4 Unit Load Multipoint Transceiver, 8-pin Narrow SOIC, Pb-Free; PartNumber: DS1487M/NOPB; Manufacturer: National Semiconductor; PackageTopMarking: NSZXTT*DS148*7M; PowerWise: N; CompType: Interface IC; High-Reliability: Y; DatasheetVersion: Jul-1998; PackageVersion: revM, May-2009; PackageReference: M08A; PackageDescription: SOIC Narrow, 4.9 x 3.9 x 1.45mm, 8 Lead, 1.27mm Pitch; RoHS: Y; PinCount: 8; Code_JEDEC: MS-012-AA; Code_IPC: SOIC127P600-8; ComponentLink1Description: Manufacturer URL; ComponentLink1URL: http://www.national.com/; ComponentLink2Description: DS1487 Datasheet; ComponentLink2URL: http://www.national.com/ds/DS/DS1487.pdf; ComponentLink3Description: DS1487 Web Page; ComponentLink3URL: http://www.national.com/pf/DS/DS1487.html; ComponentLink4Description: M08A Package Page; ComponentLink4URL: http://www.national.com/packaging/folders/m08a.html
footprint M08A_N (SOIC, 8-Leads, Body 4.9x3.9mm, Pitch 1.27mm, IPC Medium Density)
footprint M08A_L (SOIC, 8-Leads, Body 4.9x3.9mm, Pitch 1.27mm, IPC High Density)
footprint M08A_M (SOIC, 8-Leads, Body 4.9x3.9mm, Pitch 1.27mm, IPC Low Density)
pins: 1 RO (out), 2 RE (in), 3 DE (in), 4 DI (in), 5 GND (power), 6 A (io), 7 B (io), 8 VCC (power)